# Altium footprint library DischargeResistor.PcbLib: 1 footprints
Each footprint in its own frame and in the unit in brackets; x right, y up, seen from the top. Pads: shape width x height; smd on the part's side, far side on the other; paste and mask are expansions set on the pad; w line width, h text height; cw(c..) or ccw(c..) is an arc to the next point about the centre after c.
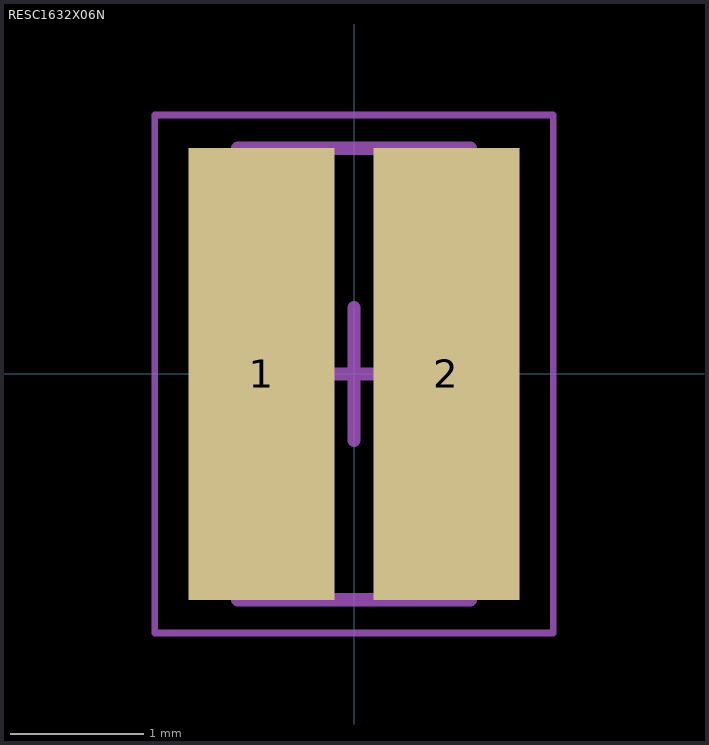
[diagram p0: the footprint, top view; thin cyan lines are the x and y axes]

## RESC1632X06N [mm] "Chip Resistor, 2-Leads, Body 1.60x3.20mm, IPC Medium Density"
height 0.6
pads (2):
  rect 1.1x3.4 smd: 1(-0.695,0) 2(0.695,0)
Mechanical 13:
  lines w0.1: -0.875,-1.7 -0.875,1.7 0.875,1.7 0.875,-1.7 -0.875,-1.7
Mechanical 15:
  lines w0.05: -1.5,-1.95 -1.5,1.95 1.5,1.95 1.5,-1.95 -1.5,-1.95
  lines w0.1: -0.5,0 0.5,0 ; 0,-0.5 0,0.5
3D body "RESC1632X06N.step": height 0.6, standoff 0, extent -0.875,-1.7 0.875,1.7